# Altium schematic symbol library jlcpcb_2025_04_ferrites_extended_1206.schlib: 308 symbols (part 1 of 6)
Pins are listed as number, name and electrical type; pins without a type are passive.

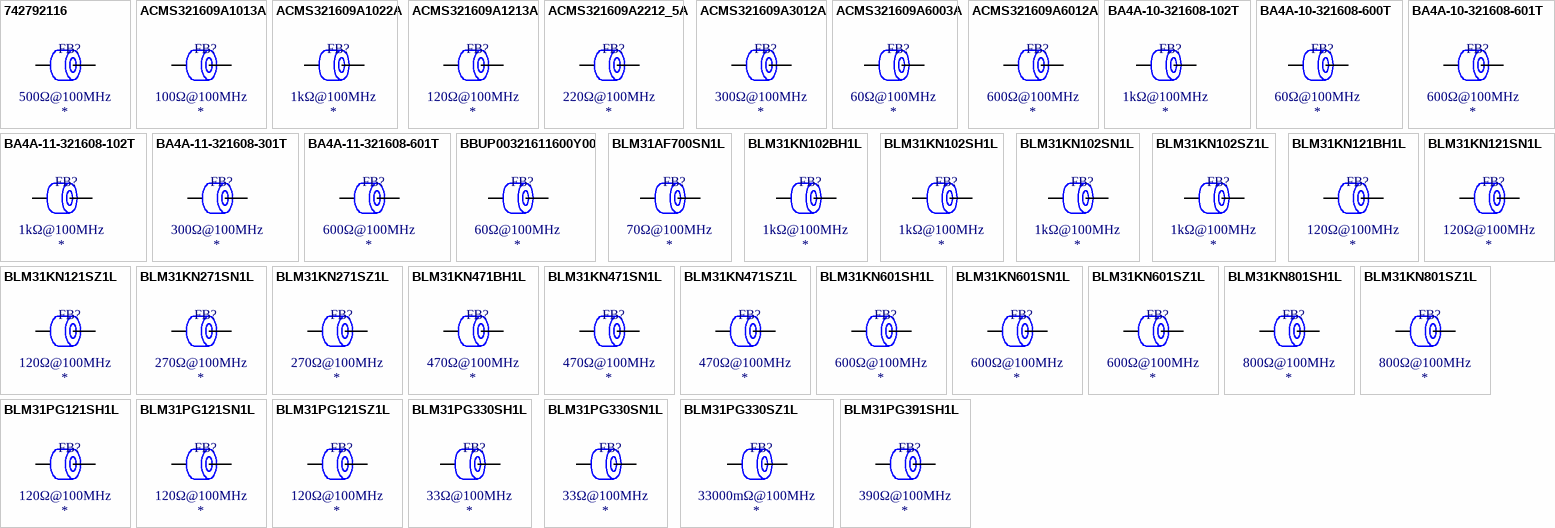
[diagram p0: symbols 742792116 to BLM31PG391SH1L]

## 742792116
designator FB?  Impedance @ Frequency: 500Ω@100MHz
Ferrite, 500Ω@100MHz, ±25%, 60mΩ, 2.5A, SMD 1206; Manufacturer: Wurth Elektronik; Manufacturer Part Number: 742792116; Package Size: 1206; JLCPCB Basic Part: No; JLCPCB Part Number: C2661413; Supplier 1: LCSC; Category: Ferrite Beads; Supplier Part Number 1: C2661413; Tolerance: ±25%; Rated Current: 2.5A; DC Resistance: 60mΩ; RoHS: Yes; ComponentLink1Description: Datasheet; ComponentLink1URL: https://wmsc.lcsc.com/wmsc/upload/file/pdf/v2/lcsc/2106080004_Wurth-Elektronik-742792116_C2661413.pdf; ComponentLink2Description: JLCPCB Part URL; ComponentLink2URL: https://jlcpcb.com/partdetail/C2661413; ComponentLink3Description: LCSC Part URL; ComponentLink3URL: https://lcsc.com/product-detail/Ferrite-Beads_Wurth-Elektronik-Wurth-Elektronik-742792116_C2661413.html
footprint FB-1206 (1206 (3216M) Ferrite)
pins: 1, 2

## ACMS321609A1013A
designator FB?  Impedance @ Frequency: 100Ω@100MHz
Ferrite, 100Ω@100MHz, ±25%, 70mΩ, 3A, SMD 1206; Manufacturer: HYHONGYEX; Manufacturer Part Number: ACMS321609A1013A; Package Size: 1206; JLCPCB Basic Part: No; JLCPCB Part Number: C963884; Supplier 1: LCSC; Category: Ferrite Beads; Supplier Part Number 1: C963884; Tolerance: ±25%; Rated Current: 3A; DC Resistance: 70mΩ; RoHS: Yes; ComponentLink1Description: Datasheet; ComponentLink1URL: https://wmsc.lcsc.com/wmsc/upload/file/pdf/v2/lcsc/2012171840_HYHONGYEX-ACMS321609A1013A_C963884.pdf; ComponentLink2Description: JLCPCB Part URL; ComponentLink2URL: https://jlcpcb.com/partdetail/C963884; ComponentLink3Description: LCSC Part URL; ComponentLink3URL: https://lcsc.com/product-detail/Ferrite-Beads_HYHONGYEX-HYHONGYEX-ACMS321609A1013A_C963884.html
footprint FB-1206 (1206 (3216M) Ferrite)
pins: 1, 2

## ACMS321609A1022A
designator FB?  Impedance @ Frequency: 1kΩ@100MHz
Ferrite, 1kΩ@100MHz, ±25%, 250mΩ, 2A, SMD 1206; Manufacturer: HYHONGYEX; Manufacturer Part Number: ACMS321609A1022A; Package Size: 1206; JLCPCB Basic Part: No; JLCPCB Part Number: C963889; Supplier 1: LCSC; Category: Ferrite Beads; Supplier Part Number 1: C963889; Tolerance: ±25%; Rated Current: 2A; DC Resistance: 250mΩ; RoHS: Yes; ComponentLink1Description: Datasheet; ComponentLink1URL: https://wmsc.lcsc.com/wmsc/upload/file/pdf/v2/lcsc/2201131330_HYHONGYEX-ACMS321609A1022A_C963889.pdf; ComponentLink2Description: JLCPCB Part URL; ComponentLink2URL: https://jlcpcb.com/partdetail/C963889; ComponentLink3Description: LCSC Part URL; ComponentLink3URL: https://lcsc.com/product-detail/Ferrite-Beads_HYHONGYEX-HYHONGYEX-ACMS321609A1022A_C963889.html
footprint FB-1206 (1206 (3216M) Ferrite)
pins: 1, 2

## ACMS321609A1213A
designator FB?  Impedance @ Frequency: 120Ω@100MHz
Ferrite, 120Ω@100MHz, ±25%, 70mΩ, 3A, SMD 1206; Manufacturer: HYHONGYEX; Manufacturer Part Number: ACMS321609A1213A; Package Size: 1206; JLCPCB Basic Part: No; JLCPCB Part Number: C963885; Supplier 1: LCSC; Category: Ferrite Beads; Supplier Part Number 1: C963885; Tolerance: ±25%; Rated Current: 3A; DC Resistance: 70mΩ; RoHS: Yes; ComponentLink1Description: Datasheet; ComponentLink1URL: https://wmsc.lcsc.com/wmsc/upload/file/pdf/v2/lcsc/2012171914_HYHONGYEX-ACMS321609A1213A_C963885.pdf; ComponentLink2Description: JLCPCB Part URL; ComponentLink2URL: https://jlcpcb.com/partdetail/C963885; ComponentLink3Description: LCSC Part URL; ComponentLink3URL: https://lcsc.com/product-detail/Ferrite-Beads_HYHONGYEX-HYHONGYEX-ACMS321609A1213A_C963885.html
footprint FB-1206 (1206 (3216M) Ferrite)
pins: 1, 2

## ACMS321609A2212_5A
designator FB?  Impedance @ Frequency: 220Ω@100MHz
Ferrite, 220Ω@100MHz, ±25%, 120mΩ, 2.5A, SMD 1206; Manufacturer: HYHONGYEX; Manufacturer Part Number: ACMS321609A2212.5A; Package Size: 1206; JLCPCB Basic Part: No; JLCPCB Part Number: C963886; Supplier 1: LCSC; Category: Ferrite Beads; Supplier Part Number 1: C963886; Tolerance: ±25%; Rated Current: 2.5A; DC Resistance: 120mΩ; RoHS: Yes; ComponentLink1Description: Datasheet; ComponentLink1URL: https://wmsc.lcsc.com/wmsc/upload/file/pdf/v2/lcsc/2012171914_HYHONGYEX-ACMS321609A2212-5A_C963886.pdf; ComponentLink2Description: JLCPCB Part URL; ComponentLink2URL: https://jlcpcb.com/partdetail/C963886; ComponentLink3Description: LCSC Part URL; ComponentLink3URL: https://lcsc.com/product-detail/Ferrite-Beads_HYHONGYEX-HYHONGYEX-ACMS321609A2212.5A_C963886.html
footprint FB-1206 (1206 (3216M) Ferrite)
pins: 1, 2

## ACMS321609A3012A
designator FB?  Impedance @ Frequency: 300Ω@100MHz
Ferrite, 300Ω@100MHz, ±25%, 150mΩ, 2A, SMD 1206; Manufacturer: HYHONGYEX; Manufacturer Part Number: ACMS321609A3012A; Package Size: 1206; JLCPCB Basic Part: No; JLCPCB Part Number: C963887; Supplier 1: LCSC; Category: Ferrite Beads; Supplier Part Number 1: C963887; Tolerance: ±25%; Rated Current: 2A; DC Resistance: 150mΩ; RoHS: Yes; ComponentLink1Description: Datasheet; ComponentLink1URL: https://wmsc.lcsc.com/wmsc/upload/file/pdf/v2/lcsc/2012171914_HYHONGYEX-ACMS321609A3012A_C963887.pdf; ComponentLink2Description: JLCPCB Part URL; ComponentLink2URL: https://jlcpcb.com/partdetail/C963887; ComponentLink3Description: LCSC Part URL; ComponentLink3URL: https://lcsc.com/product-detail/Ferrite-Beads_HYHONGYEX-HYHONGYEX-ACMS321609A3012A_C963887.html
footprint FB-1206 (1206 (3216M) Ferrite)
pins: 1, 2

## ACMS321609A6003A
designator FB?  Impedance @ Frequency: 60Ω@100MHz
Ferrite, 60Ω@100MHz, ±25%, 70mΩ, 3A, SMD 1206; Manufacturer: HYHONGYEX; Manufacturer Part Number: ACMS321609A6003A; Package Size: 1206; JLCPCB Basic Part: No; JLCPCB Part Number: C963881; Supplier 1: LCSC; Category: Ferrite Beads; Supplier Part Number 1: C963881; Tolerance: ±25%; Rated Current: 3A; DC Resistance: 70mΩ; RoHS: Yes; ComponentLink1Description: Datasheet; ComponentLink1URL: https://wmsc.lcsc.com/wmsc/upload/file/pdf/v2/lcsc/2201131330_HYHONGYEX-ACMS321609A6003A_C963881.pdf; ComponentLink2Description: JLCPCB Part URL; ComponentLink2URL: https://jlcpcb.com/partdetail/C963881; ComponentLink3Description: LCSC Part URL; ComponentLink3URL: https://lcsc.com/product-detail/Ferrite-Beads_HYHONGYEX-HYHONGYEX-ACMS321609A6003A_C963881.html
footprint FB-1206 (1206 (3216M) Ferrite)
pins: 1, 2

## ACMS321609A6012A
designator FB?  Impedance @ Frequency: 600Ω@100MHz
Ferrite, 600Ω@100MHz, ±25%, 200mΩ, 2A, SMD 1206; Manufacturer: HYHONGYEX; Manufacturer Part Number: ACMS321609A6012A; Package Size: 1206; JLCPCB Basic Part: No; JLCPCB Part Number: C963888; Supplier 1: LCSC; Category: Ferrite Beads; Supplier Part Number 1: C963888; Tolerance: ±25%; Rated Current: 2A; DC Resistance: 200mΩ; RoHS: Yes; ComponentLink1Description: Datasheet; ComponentLink1URL: https://wmsc.lcsc.com/wmsc/upload/file/pdf/v2/lcsc/2012171914_HYHONGYEX-ACMS321609A6012A_C963888.pdf; ComponentLink2Description: JLCPCB Part URL; ComponentLink2URL: https://jlcpcb.com/partdetail/C963888; ComponentLink3Description: LCSC Part URL; ComponentLink3URL: https://lcsc.com/product-detail/Ferrite-Beads_HYHONGYEX-HYHONGYEX-ACMS321609A6012A_C963888.html
footprint FB-1206 (1206 (3216M) Ferrite)
pins: 1, 2

## BA4A-10-321608-102T
designator FB?  Impedance @ Frequency: 1kΩ@100MHz
Ferrite, 1kΩ@100MHz, ±25%, 900mΩ, 100mA, SMD 1206; Manufacturer: Kingcore; Manufacturer Part Number: BA4A-10-321608-102T; Package Size: 1206; JLCPCB Basic Part: No; JLCPCB Part Number: C491465; Supplier 1: LCSC; Category: Ferrite Beads; Supplier Part Number 1: C491465; Tolerance: ±25%; Rated Current: 100mA; DC Resistance: 900mΩ; RoHS: Yes; ComponentLink1Description: Datasheet; ComponentLink1URL: https://datasheet.lcsc.com/lcsc/2003182011_Kingcore-BA4A-10-321608-102T_C491465.pdf; ComponentLink2Description: JLCPCB Part URL; ComponentLink2URL: https://jlcpcb.com/partdetail/C491465; ComponentLink3Description: LCSC Part URL; ComponentLink3URL: https://lcsc.com/product-detail/Ferrite-Beads_Kingcore-Kingcore-BA4A-10-321608-102T_C491465.html
footprint FB-1206 (1206 (3216M) Ferrite)
pins: 1, 2

## BA4A-10-321608-600T
designator FB?  Impedance @ Frequency: 60Ω@100MHz
Ferrite, 60Ω@100MHz, ±25%, 300mΩ, 300mA, SMD 1206; Manufacturer: Kingcore; Manufacturer Part Number: BA4A-10-321608-600T; Package Size: 1206; JLCPCB Basic Part: No; JLCPCB Part Number: C491456; Supplier 1: LCSC; Category: Ferrite Beads; Supplier Part Number 1: C491456; Tolerance: ±25%; Rated Current: 300mA; DC Resistance: 300mΩ; RoHS: Yes; ComponentLink1Description: Datasheet; ComponentLink1URL: https://datasheet.lcsc.com/lcsc/2003182011_Kingcore-BA4A-10-321608-600T_C491456.pdf; ComponentLink2Description: JLCPCB Part URL; ComponentLink2URL: https://jlcpcb.com/partdetail/C491456; ComponentLink3Description: LCSC Part URL; ComponentLink3URL: https://lcsc.com/product-detail/Ferrite-Beads_Kingcore-Kingcore-BA4A-10-321608-600T_C491456.html
footprint FB-1206 (1206 (3216M) Ferrite)
pins: 1, 2

## BA4A-10-321608-601T
designator FB?  Impedance @ Frequency: 600Ω@100MHz
Ferrite, 600Ω@100MHz, ±25%, 650mΩ, 200mA, SMD 1206; Manufacturer: Kingcore; Manufacturer Part Number: BA4A-10-321608-601T; Package Size: 1206; JLCPCB Basic Part: No; JLCPCB Part Number: C491464; Supplier 1: LCSC; Category: Ferrite Beads; Supplier Part Number 1: C491464; Tolerance: ±25%; Rated Current: 200mA; DC Resistance: 650mΩ; RoHS: Yes; ComponentLink1Description: Datasheet; ComponentLink1URL: https://datasheet.lcsc.com/lcsc/2003182011_Kingcore-BA4A-10-321608-601T_C491464.pdf; ComponentLink2Description: JLCPCB Part URL; ComponentLink2URL: https://jlcpcb.com/partdetail/C491464; ComponentLink3Description: LCSC Part URL; ComponentLink3URL: https://lcsc.com/product-detail/Ferrite-Beads_Kingcore-Kingcore-BA4A-10-321608-601T_C491464.html
footprint FB-1206 (1206 (3216M) Ferrite)
pins: 1, 2

## BA4A-11-321608-102T
designator FB?  Impedance @ Frequency: 1kΩ@100MHz
Ferrite, 1kΩ@100MHz, ±25%, 900mΩ, 100mA, SMD 1206; Manufacturer: Kingcore; Manufacturer Part Number: BA4A-11-321608-102T; Package Size: 1206; JLCPCB Basic Part: No; JLCPCB Part Number: C491478; Supplier 1: LCSC; Category: Ferrite Beads; Supplier Part Number 1: C491478; Tolerance: ±25%; Rated Current: 100mA; DC Resistance: 900mΩ; RoHS: Yes; ComponentLink1Description: Datasheet; ComponentLink1URL: https://datasheet.lcsc.com/lcsc/2003182011_Kingcore-BA4A-11-321608-102T_C491478.pdf; ComponentLink2Description: JLCPCB Part URL; ComponentLink2URL: https://jlcpcb.com/partdetail/C491478; ComponentLink3Description: LCSC Part URL; ComponentLink3URL: https://lcsc.com/product-detail/Ferrite-Beads_Kingcore-Kingcore-BA4A-11-321608-102T_C491478.html
footprint FB-1206 (1206 (3216M) Ferrite)
pins: 1, 2

## BA4A-11-321608-301T
designator FB?  Impedance @ Frequency: 300Ω@100MHz
Ferrite, 300Ω@100MHz, ±25%, 500mΩ, 200mA, SMD 1206; Manufacturer: Kingcore; Manufacturer Part Number: BA4A-11-321608-301T; Package Size: 1206; JLCPCB Basic Part: No; JLCPCB Part Number: C491475; Supplier 1: LCSC; Category: Ferrite Beads; Supplier Part Number 1: C491475; Tolerance: ±25%; Rated Current: 200mA; DC Resistance: 500mΩ; RoHS: Yes; ComponentLink1Description: Datasheet; ComponentLink1URL: https://datasheet.lcsc.com/lcsc/2003182011_Kingcore-BA4A-11-321608-301T_C491475.pdf; ComponentLink2Description: JLCPCB Part URL; ComponentLink2URL: https://jlcpcb.com/partdetail/C491475; ComponentLink3Description: LCSC Part URL; ComponentLink3URL: https://lcsc.com/product-detail/Ferrite-Beads_Kingcore-Kingcore-BA4A-11-321608-301T_C491475.html
footprint FB-1206 (1206 (3216M) Ferrite)
pins: 1, 2

## BA4A-11-321608-601T
designator FB?  Impedance @ Frequency: 600Ω@100MHz
Ferrite, 600Ω@100MHz, ±25%, 600mΩ, 200mA, SMD 1206; Manufacturer: Kingcore; Manufacturer Part Number: BA4A-11-321608-601T; Package Size: 1206; JLCPCB Basic Part: No; JLCPCB Part Number: C491477; Supplier 1: LCSC; Category: Ferrite Beads; Supplier Part Number 1: C491477; Tolerance: ±25%; Rated Current: 200mA; DC Resistance: 600mΩ; RoHS: Yes; ComponentLink1Description: Datasheet; ComponentLink1URL: https://datasheet.lcsc.com/lcsc/2003182011_Kingcore-BA4A-11-321608-601T_C491477.pdf; ComponentLink2Description: JLCPCB Part URL; ComponentLink2URL: https://jlcpcb.com/partdetail/C491477; ComponentLink3Description: LCSC Part URL; ComponentLink3URL: https://lcsc.com/product-detail/Ferrite-Beads_Kingcore-Kingcore-BA4A-11-321608-601T_C491477.html
footprint FB-1206 (1206 (3216M) Ferrite)
pins: 1, 2

## BBUP00321611600Y00
designator FB?  Impedance @ Frequency: 60Ω@100MHz
Ferrite, 60Ω@100MHz, ±25%, 0.012Ω, 6A, SMD 1206; Manufacturer: Chilisin Elec; Manufacturer Part Number: BBUP00321611600Y00; Package Size: 1206; JLCPCB Basic Part: No; JLCPCB Part Number: C2981200; Supplier 1: LCSC; Category: Ferrite Beads; Supplier Part Number 1: C2981200; Tolerance: ±25%; Rated Current: 6A; DC Resistance: 0.012Ω; RoHS: Yes; ComponentLink1Description: Datasheet; ComponentLink1URL: https://wmsc.lcsc.com/wmsc/upload/file/pdf/v2/lcsc/2203101903_Chilisin-Elec-BBUP00321611600Y00_C2981200.pdf; ComponentLink2Description: JLCPCB Part URL; ComponentLink2URL: https://jlcpcb.com/partdetail/C2981200; ComponentLink3Description: LCSC Part URL; ComponentLink3URL: https://lcsc.com/product-detail/Ferrite-Beads_Chilisin-Elec-Chilisin-Elec-BBUP00321611600Y00_C2981200.html
footprint FB-1206 (1206 (3216M) Ferrite)
pins: 1, 2

## BLM31AF700SN1L
designator FB?  Impedance @ Frequency: 70Ω@100MHz
Ferrite, 70Ω@100MHz, ±25%, 70mΩ, 200mA, SMD 1206; Manufacturer: Murata Electronics; Manufacturer Part Number: BLM31AF700SN1L; Package Size: 1206; JLCPCB Basic Part: No; JLCPCB Part Number: C113036; Supplier 1: LCSC; Category: Ferrite Beads; Supplier Part Number 1: C113036; Tolerance: ±25%; Rated Current: 200mA; DC Resistance: 70mΩ; RoHS: Yes; ComponentLink1Description: Datasheet; ComponentLink1URL: https://wmsc.lcsc.com/wmsc/upload/file/pdf/v2/lcsc/2001061832_Murata-Electronics-BLM31AF700SN1L_C113036.pdf; ComponentLink2Description: JLCPCB Part URL; ComponentLink2URL: https://jlcpcb.com/partdetail/C113036; ComponentLink3Description: LCSC Part URL; ComponentLink3URL: https://lcsc.com/product-detail/Ferrite-Beads_Murata-Electronics-Murata-Electronics-BLM31AF700SN1L_C113036.html
footprint FB-1206 (1206 (3216M) Ferrite)
pins: 1, 2

## BLM31KN102BH1L
designator FB?  Impedance @ Frequency: 1kΩ@100MHz
Ferrite, 1kΩ@100MHz, ±25%, 75mΩ, 1.4A, SMD 1206; Manufacturer: Murata Electronics; Manufacturer Part Number: BLM31KN102BH1L; Package Size: 1206; JLCPCB Basic Part: No; JLCPCB Part Number: C2661851; Supplier 1: LCSC; Category: Ferrite Beads; Supplier Part Number 1: C2661851; Tolerance: ±25%; Rated Current: 1.4A; DC Resistance: 75mΩ; RoHS: Yes; ComponentLink1Description: Datasheet; ComponentLink1URL: https://wmsc.lcsc.com/wmsc/upload/file/pdf/v2/lcsc/2202131730_Murata-Electronics-BLM31KN102BH1L_C2661851.pdf; ComponentLink2Description: JLCPCB Part URL; ComponentLink2URL: https://jlcpcb.com/partdetail/C2661851; ComponentLink3Description: LCSC Part URL; ComponentLink3URL: https://lcsc.com/product-detail/Ferrite-Beads_Murata-Electronics-Murata-Electronics-BLM31KN102BH1L_C2661851.html
footprint FB-1206 (1206 (3216M) Ferrite)
pins: 1, 2

## BLM31KN102SH1L
designator FB?  Impedance @ Frequency: 1kΩ@100MHz
Ferrite, 1kΩ@100MHz, 75mΩ, SMD 1206; Manufacturer: Murata Electronics; Manufacturer Part Number: BLM31KN102SH1L; Package Size: 1206; JLCPCB Basic Part: No; JLCPCB Part Number: C723325; Supplier 1: LCSC; Category: Ferrite Beads; Supplier Part Number 1: C723325; DC Resistance: 75mΩ; RoHS: Yes; ComponentLink1Description: Datasheet; ComponentLink1URL: https://wmsc.lcsc.com/wmsc/upload/file/pdf/v2/lcsc/2008241234_Murata-Electronics-BLM31KN102SH1L_C723325.pdf; ComponentLink2Description: JLCPCB Part URL; ComponentLink2URL: https://jlcpcb.com/partdetail/C723325; ComponentLink3Description: LCSC Part URL; ComponentLink3URL: https://lcsc.com/product-detail/Ferrite-Beads_Murata-Electronics-Murata-Electronics-BLM31KN102SH1L_C723325.html
pins: 1, 2

## BLM31KN102SN1L
designator FB?  Impedance @ Frequency: 1kΩ@100MHz
Ferrite, 1kΩ@100MHz, 75mΩ, 2A, SMD 1206; Manufacturer: Murata Electronics; Manufacturer Part Number: BLM31KN102SN1L; Package Size: 1206; JLCPCB Basic Part: No; JLCPCB Part Number: C560056; Supplier 1: LCSC; Category: Ferrite Beads; Supplier Part Number 1: C560056; Rated Current: 2A; DC Resistance: 75mΩ; RoHS: Yes; ComponentLink1Description: Datasheet; ComponentLink1URL: https://wmsc.lcsc.com/wmsc/upload/file/pdf/v2/lcsc/2112221030_Murata-Electronics-BLM31KN102SN1L_C560056.pdf; ComponentLink2Description: JLCPCB Part URL; ComponentLink2URL: https://jlcpcb.com/partdetail/C560056; ComponentLink3Description: LCSC Part URL; ComponentLink3URL: https://lcsc.com/product-detail/Ferrite-Beads_Murata-Electronics-Murata-Electronics-BLM31KN102SN1L_C560056.html
pins: 1, 2

## BLM31KN102SZ1L
designator FB?  Impedance @ Frequency: 1kΩ@100MHz
Ferrite, 1kΩ@100MHz, ±25%, 75mΩ, 2A, SMD 1206; Manufacturer: Murata Electronics; Manufacturer Part Number: BLM31KN102SZ1L; Package Size: 1206; JLCPCB Basic Part: No; JLCPCB Part Number: C710514; Supplier 1: LCSC; Category: Ferrite Beads; Supplier Part Number 1: C710514; Tolerance: ±25%; Rated Current: 2A; DC Resistance: 75mΩ; RoHS: Yes; ComponentLink1Description: Datasheet; ComponentLink1URL: https://wmsc.lcsc.com/wmsc/upload/file/pdf/v2/lcsc/2304140030_Murata-Electronics-BLM31KN102SZ1L_C710514.pdf; ComponentLink2Description: JLCPCB Part URL; ComponentLink2URL: https://jlcpcb.com/partdetail/C710514; ComponentLink3Description: LCSC Part URL; ComponentLink3URL: https://lcsc.com/product-detail/Ferrite-Beads_Murata-Electronics-Murata-Electronics-BLM31KN102SZ1L_C710514.html
footprint FB-1206 (1206 (3216M) Ferrite)
pins: 1, 2

## BLM31KN121BH1L
designator FB?  Impedance @ Frequency: 120Ω@100MHz
Ferrite, 120Ω@100MHz, ±25%, 9mΩ, 4A, SMD 1206; Manufacturer: Murata Electronics; Manufacturer Part Number: BLM31KN121BH1L; Package Size: 1206; JLCPCB Basic Part: No; JLCPCB Part Number: C393165; Supplier 1: LCSC; Category: Ferrite Beads; Supplier Part Number 1: C393165; Tolerance: ±25%; Rated Current: 4A; DC Resistance: 9mΩ; RoHS: Yes; ComponentLink1Description: Datasheet; ComponentLink1URL: https://wmsc.lcsc.com/wmsc/upload/file/pdf/v2/lcsc/2304140030_Murata-Electronics-BLM31KN121BH1L_C393165.pdf; ComponentLink2Description: JLCPCB Part URL; ComponentLink2URL: https://jlcpcb.com/partdetail/C393165; ComponentLink3Description: LCSC Part URL; ComponentLink3URL: https://lcsc.com/product-detail/Ferrite-Beads_Murata-Electronics-Murata-Electronics-BLM31KN121BH1L_C393165.html
footprint FB-1206 (1206 (3216M) Ferrite)
pins: 1, 2

## BLM31KN121SN1L
designator FB?  Impedance @ Frequency: 120Ω@100MHz
Ferrite, 120Ω@100MHz, ±25%, 9mΩ, 6A, SMD 1206; Manufacturer: Murata Electronics; Manufacturer Part Number: BLM31KN121SN1L; Package Size: 1206; JLCPCB Basic Part: No; JLCPCB Part Number: C337884; Supplier 1: LCSC; Category: Ferrite Beads; Supplier Part Number 1: C337884; Tolerance: ±25%; Rated Current: 6A; DC Resistance: 9mΩ; RoHS: Yes; ComponentLink1Description: Datasheet; ComponentLink1URL: https://wmsc.lcsc.com/wmsc/upload/file/pdf/v2/lcsc/2401191156_Murata-Electronics-BLM31KN121SN1L_C337884.pdf; ComponentLink2Description: JLCPCB Part URL; ComponentLink2URL: https://jlcpcb.com/partdetail/C337884; ComponentLink3Description: LCSC Part URL; ComponentLink3URL: https://lcsc.com/product-detail/Ferrite-Beads_Murata-Electronics-Murata-Electronics-BLM31KN121SN1L_C337884.html
footprint FB-1206 (1206 (3216M) Ferrite)
pins: 1, 2

## BLM31KN121SZ1L
designator FB?  Impedance @ Frequency: 120Ω@100MHz
Ferrite, 120Ω@100MHz, ±25%, 9mΩ, 6A, SMD 1206; Manufacturer: Murata Electronics; Manufacturer Part Number: BLM31KN121SZ1L; Package Size: 1206; JLCPCB Basic Part: No; JLCPCB Part Number: C710516; Supplier 1: LCSC; Category: Ferrite Beads; Supplier Part Number 1: C710516; Tolerance: ±25%; Rated Current: 6A; DC Resistance: 9mΩ; RoHS: Yes; ComponentLink1Description: Datasheet; ComponentLink1URL: https://wmsc.lcsc.com/wmsc/upload/file/pdf/v2/lcsc/2304140030_Murata-Electronics-BLM31KN121SZ1L_C710516.pdf; ComponentLink2Description: JLCPCB Part URL; ComponentLink2URL: https://jlcpcb.com/partdetail/C710516; ComponentLink3Description: LCSC Part URL; ComponentLink3URL: https://lcsc.com/product-detail/Ferrite-Beads_Murata-Electronics-Murata-Electronics-BLM31KN121SZ1L_C710516.html
footprint FB-1206 (1206 (3216M) Ferrite)
pins: 1, 2

## BLM31KN271SN1L
designator FB?  Impedance @ Frequency: 270Ω@100MHz
Ferrite, 270Ω@100MHz, 16mΩ, SMD 1206; Manufacturer: Murata Electronics; Manufacturer Part Number: BLM31KN271SN1L; Package Size: 1206; JLCPCB Basic Part: No; JLCPCB Part Number: C703115; Supplier 1: LCSC; Category: Ferrite Beads; Supplier Part Number 1: C703115; DC Resistance: 16mΩ; RoHS: Yes; ComponentLink1Description: Datasheet; ComponentLink1URL: https://wmsc.lcsc.com/wmsc/upload/file/pdf/v2/lcsc/2308111548_Murata-Electronics-BLM31KN271SN1L_C703115.pdf; ComponentLink2Description: JLCPCB Part URL; ComponentLink2URL: https://jlcpcb.com/partdetail/C703115; ComponentLink3Description: LCSC Part URL; ComponentLink3URL: https://lcsc.com/product-detail/Ferrite-Beads_Murata-Electronics-Murata-Electronics-BLM31KN271SN1L_C703115.html
pins: 1, 2

## BLM31KN271SZ1L
designator FB?  Impedance @ Frequency: 270Ω@100MHz
Ferrite, 270Ω@100MHz, ±25%, 16mΩ, 6A, SMD 1206; Manufacturer: Murata Electronics; Manufacturer Part Number: BLM31KN271SZ1L; Package Size: 1206; JLCPCB Basic Part: No; JLCPCB Part Number: C668305; Supplier 1: LCSC; Category: Ferrite Beads; Supplier Part Number 1: C668305; Tolerance: ±25%; Rated Current: 6A; DC Resistance: 16mΩ; RoHS: Yes; ComponentLink1Description: Datasheet; ComponentLink1URL: https://wmsc.lcsc.com/wmsc/upload/file/pdf/v2/lcsc/2204121015_Murata-Electronics-BLM31KN271SZ1L_C668305.pdf; ComponentLink2Description: JLCPCB Part URL; ComponentLink2URL: https://jlcpcb.com/partdetail/C668305; ComponentLink3Description: LCSC Part URL; ComponentLink3URL: https://lcsc.com/product-detail/Ferrite-Beads_Murata-Electronics-Murata-Electronics-BLM31KN271SZ1L_C668305.html
footprint FB-1206 (1206 (3216M) Ferrite)
pins: 1, 2

## BLM31KN471BH1L
designator FB?  Impedance @ Frequency: 470Ω@100MHz
Ferrite, 470Ω@100MHz, ±25%, 20mΩ, 2.7A, SMD 1206; Manufacturer: Murata Electronics; Manufacturer Part Number: BLM31KN471BH1L; Package Size: 1206; JLCPCB Basic Part: No; JLCPCB Part Number: C2992332; Supplier 1: LCSC; Category: Ferrite Beads; Supplier Part Number 1: C2992332; Tolerance: ±25%; Rated Current: 2.7A; DC Resistance: 20mΩ; RoHS: Yes; ComponentLink1Description: Datasheet; ComponentLink1URL: https://wmsc.lcsc.com/wmsc/upload/file/pdf/v2/lcsc/2204191745_Murata-Electronics-BLM31KN471BH1L_C2992332.pdf; ComponentLink2Description: JLCPCB Part URL; ComponentLink2URL: https://jlcpcb.com/partdetail/C2992332; ComponentLink3Description: LCSC Part URL; ComponentLink3URL: https://lcsc.com/product-detail/Ferrite-Beads_Murata-Electronics-Murata-Electronics-BLM31KN471BH1L_C2992332.html
footprint FB-1206 (1206 (3216M) Ferrite)
pins: 1, 2

## BLM31KN471SN1L
designator FB?  Impedance @ Frequency: 470Ω@100MHz
Ferrite, 470Ω@100MHz, 20mΩ, SMD 1206; Manufacturer: Murata Electronics; Manufacturer Part Number: BLM31KN471SN1L; Package Size: 1206; JLCPCB Basic Part: No; JLCPCB Part Number: C703117; Supplier 1: LCSC; Category: Ferrite Beads; Supplier Part Number 1: C703117; DC Resistance: 20mΩ; RoHS: Yes; ComponentLink1Description: Datasheet; ComponentLink1URL: https://wmsc.lcsc.com/wmsc/upload/file/pdf/v2/lcsc/2401241855_Murata-Electronics-BLM31KN471SN1L_C703117.pdf; ComponentLink2Description: JLCPCB Part URL; ComponentLink2URL: https://jlcpcb.com/partdetail/C703117; ComponentLink3Description: LCSC Part URL; ComponentLink3URL: https://lcsc.com/product-detail/Ferrite-Beads_Murata-Electronics-Murata-Electronics-BLM31KN471SN1L_C703117.html
pins: 1, 2

## BLM31KN471SZ1L
designator FB?  Impedance @ Frequency: 470Ω@100MHz
Ferrite, 470Ω@100MHz, ±25%, 20mΩ, 4A, SMD 1206; Manufacturer: Murata Electronics; Manufacturer Part Number: BLM31KN471SZ1L; Package Size: 1206; JLCPCB Basic Part: No; JLCPCB Part Number: C710518; Supplier 1: LCSC; Category: Ferrite Beads; Supplier Part Number 1: C710518; Tolerance: ±25%; Rated Current: 4A; DC Resistance: 20mΩ; RoHS: Yes; ComponentLink1Description: Datasheet; ComponentLink1URL: https://wmsc.lcsc.com/wmsc/upload/file/pdf/v2/lcsc/2304140030_Murata-Electronics-BLM31KN471SZ1L_C710518.pdf; ComponentLink2Description: JLCPCB Part URL; ComponentLink2URL: https://jlcpcb.com/partdetail/C710518; ComponentLink3Description: LCSC Part URL; ComponentLink3URL: https://lcsc.com/product-detail/Ferrite-Beads_Murata-Electronics-Murata-Electronics-BLM31KN471SZ1L_C710518.html
footprint FB-1206 (1206 (3216M) Ferrite)
pins: 1, 2

## BLM31KN601SH1L
designator FB?  Impedance @ Frequency: 600Ω@100MHz
Ferrite, 600Ω@100MHz, 38mΩ, 2.9A, SMD 1206; Manufacturer: Murata Electronics; Manufacturer Part Number: BLM31KN601SH1L; Package Size: 1206; JLCPCB Basic Part: No; JLCPCB Part Number: C237603; Supplier 1: LCSC; Category: Ferrite Beads; Supplier Part Number 1: C237603; Rated Current: 2.9A; DC Resistance: 38mΩ; RoHS: Yes; ComponentLink1Description: Datasheet; ComponentLink1URL: https://wmsc.lcsc.com/wmsc/upload/file/pdf/v2/lcsc/2308111548_Murata-Electronics-BLM31KN601SH1L_C237603.pdf; ComponentLink2Description: JLCPCB Part URL; ComponentLink2URL: https://jlcpcb.com/partdetail/C237603; ComponentLink3Description: LCSC Part URL; ComponentLink3URL: https://lcsc.com/product-detail/Ferrite-Beads_Murata-Electronics-Murata-Electronics-BLM31KN601SH1L_C237603.html
pins: 1, 2

## BLM31KN601SN1L
designator FB?  Impedance @ Frequency: 600Ω@100MHz
Ferrite, 600Ω@100MHz, 38mΩ, SMD 1206; Manufacturer: Murata Electronics; Manufacturer Part Number: BLM31KN601SN1L; Package Size: 1206; JLCPCB Basic Part: No; JLCPCB Part Number: C668306; Supplier 1: LCSC; Category: Ferrite Beads; Supplier Part Number 1: C668306; DC Resistance: 38mΩ; RoHS: Yes; ComponentLink1Description: Datasheet; ComponentLink1URL: https://wmsc.lcsc.com/wmsc/upload/file/pdf/v2/lcsc/2209271730_Murata-Electronics-BLM31KN601SN1L_C668306.pdf; ComponentLink2Description: JLCPCB Part URL; ComponentLink2URL: https://jlcpcb.com/partdetail/C668306; ComponentLink3Description: LCSC Part URL; ComponentLink3URL: https://lcsc.com/product-detail/Ferrite-Beads_Murata-Electronics-Murata-Electronics-BLM31KN601SN1L_C668306.html
pins: 1, 2

## BLM31KN601SZ1L
designator FB?  Impedance @ Frequency: 600Ω@100MHz
Ferrite, 600Ω@100MHz, ±25%, 38mΩ, 2.9A, SMD 1206; Manufacturer: Murata Electronics; Manufacturer Part Number: BLM31KN601SZ1L; Package Size: 1206; JLCPCB Basic Part: No; JLCPCB Part Number: C710519; Supplier 1: LCSC; Category: Ferrite Beads; Supplier Part Number 1: C710519; Tolerance: ±25%; Rated Current: 2.9A; DC Resistance: 38mΩ; RoHS: Yes; ComponentLink1Description: Datasheet; ComponentLink1URL: https://wmsc.lcsc.com/wmsc/upload/file/pdf/v2/lcsc/2201131100_Murata-Electronics-BLM31KN601SZ1L_C710519.pdf; ComponentLink2Description: JLCPCB Part URL; ComponentLink2URL: https://jlcpcb.com/partdetail/C710519; ComponentLink3Description: LCSC Part URL; ComponentLink3URL: https://lcsc.com/product-detail/Ferrite-Beads_Murata-Electronics-Murata-Electronics-BLM31KN601SZ1L_C710519.html
footprint FB-1206 (1206 (3216M) Ferrite)
pins: 1, 2

## BLM31KN801SH1L
designator FB?  Impedance @ Frequency: 800Ω@100MHz
Ferrite, 800Ω@100MHz, ±25%, 50mΩ, 2.5A, SMD 1206; Manufacturer: Murata Electronics; Manufacturer Part Number: BLM31KN801SH1L; Package Size: 1206; JLCPCB Basic Part: No; JLCPCB Part Number: C524533; Supplier 1: LCSC; Category: Ferrite Beads; Supplier Part Number 1: C524533; Tolerance: ±25%; Rated Current: 2.5A; DC Resistance: 50mΩ; RoHS: Yes; ComponentLink1Description: Datasheet; ComponentLink1URL: https://wmsc.lcsc.com/wmsc/upload/file/pdf/v2/lcsc/2304140030_Murata-Electronics-BLM31KN801SH1L_C524533.pdf; ComponentLink2Description: JLCPCB Part URL; ComponentLink2URL: https://jlcpcb.com/partdetail/C524533; ComponentLink3Description: LCSC Part URL; ComponentLink3URL: https://lcsc.com/product-detail/Ferrite-Beads_Murata-Electronics-Murata-Electronics-BLM31KN801SH1L_C524533.html
footprint FB-1206 (1206 (3216M) Ferrite)
pins: 1, 2

## BLM31KN801SZ1L
designator FB?  Impedance @ Frequency: 800Ω@100MHz
Ferrite, 800Ω@100MHz, ±25%, 50mΩ, 2.5A, SMD 1206; Manufacturer: Murata Electronics; Manufacturer Part Number: BLM31KN801SZ1L; Package Size: 1206; JLCPCB Basic Part: No; JLCPCB Part Number: C1533907; Supplier 1: LCSC; Category: Ferrite Beads; Supplier Part Number 1: C1533907; Tolerance: ±25%; Rated Current: 2.5A; DC Resistance: 50mΩ; RoHS: Yes; ComponentLink1Description: Datasheet; ComponentLink1URL: https://wmsc.lcsc.com/wmsc/upload/file/pdf/v2/lcsc/2201180930_Murata-Electronics-BLM31KN801SZ1L_C1533907.pdf; ComponentLink2Description: JLCPCB Part URL; ComponentLink2URL: https://jlcpcb.com/partdetail/C1533907; ComponentLink3Description: LCSC Part URL; ComponentLink3URL: https://lcsc.com/product-detail/Ferrite-Beads_Murata-Electronics-Murata-Electronics-BLM31KN801SZ1L_C1533907.html
footprint FB-1206 (1206 (3216M) Ferrite)
pins: 1, 2

## BLM31PG121SH1L
designator FB?  Impedance @ Frequency: 120Ω@100MHz
Ferrite, 120Ω@100MHz, ±25%, 20mΩ, 3.5A, SMD 1206; Manufacturer: Murata Electronics; Manufacturer Part Number: BLM31PG121SH1L; Package Size: 1206; JLCPCB Basic Part: No; JLCPCB Part Number: C307593; Supplier 1: LCSC; Category: Ferrite Beads; Supplier Part Number 1: C307593; Tolerance: ±25%; Rated Current: 3.5A; DC Resistance: 20mΩ; RoHS: Yes; ComponentLink1Description: Datasheet; ComponentLink1URL: https://wmsc.lcsc.com/wmsc/upload/file/pdf/v2/lcsc/1912111437_Murata-Electronics-BLM31PG121SH1L_C307593.pdf; ComponentLink2Description: JLCPCB Part URL; ComponentLink2URL: https://jlcpcb.com/partdetail/C307593; ComponentLink3Description: LCSC Part URL; ComponentLink3URL: https://lcsc.com/product-detail/Ferrite-Beads_Murata-Electronics-Murata-Electronics-BLM31PG121SH1L_C307593.html
footprint FB-1206 (1206 (3216M) Ferrite)
pins: 1, 2

## BLM31PG121SN1L
designator FB?  Impedance @ Frequency: 120Ω@100MHz
Ferrite, 120Ω@100MHz, ±25%, 20mΩ, 3.5A, SMD 1206; Manufacturer: Murata Electronics; Manufacturer Part Number: BLM31PG121SN1L; Package Size: 1206; JLCPCB Basic Part: No; JLCPCB Part Number: C85841; Supplier 1: LCSC; Category: Ferrite Beads; Supplier Part Number 1: C85841; Tolerance: ±25%; Rated Current: 3.5A; DC Resistance: 20mΩ; RoHS: Yes; ComponentLink1Description: Datasheet; ComponentLink1URL: https://wmsc.lcsc.com/wmsc/upload/file/pdf/v2/lcsc/2304140030_Murata-Electronics-BLM31PG121SN1L_C85841.pdf; ComponentLink2Description: JLCPCB Part URL; ComponentLink2URL: https://jlcpcb.com/partdetail/C85841; ComponentLink3Description: LCSC Part URL; ComponentLink3URL: https://lcsc.com/product-detail/Ferrite-Beads_Murata-Electronics-Murata-Electronics-BLM31PG121SN1L_C85841.html
footprint FB-1206 (1206 (3216M) Ferrite)
pins: 1, 2

## BLM31PG121SZ1L
designator FB?  Impedance @ Frequency: 120Ω@100MHz
Ferrite, 120Ω@100MHz, ±25%, 20mΩ, 3.5A, SMD 1206; Manufacturer: Murata Electronics; Manufacturer Part Number: BLM31PG121SZ1L; Package Size: 1206; JLCPCB Basic Part: No; JLCPCB Part Number: C435390; Supplier 1: LCSC; Category: Ferrite Beads; Supplier Part Number 1: C435390; Tolerance: ±25%; Rated Current: 3.5A; DC Resistance: 20mΩ; RoHS: Yes; ComponentLink1Description: Datasheet; ComponentLink1URL: https://wmsc.lcsc.com/wmsc/upload/file/pdf/v2/lcsc/1912111437_Murata-Electronics-BLM31PG121SZ1L_C435390.pdf; ComponentLink2Description: JLCPCB Part URL; ComponentLink2URL: https://jlcpcb.com/partdetail/C435390; ComponentLink3Description: LCSC Part URL; ComponentLink3URL: https://lcsc.com/product-detail/Ferrite-Beads_Murata-Electronics-Murata-Electronics-BLM31PG121SZ1L_C435390.html
footprint FB-1206 (1206 (3216M) Ferrite)
pins: 1, 2

## BLM31PG330SH1L
designator FB?  Impedance @ Frequency: 33Ω@100MHz
Ferrite, 33Ω@100MHz, ±25%, 9mΩ, 6A, SMD 1206; Manufacturer: Murata Electronics; Manufacturer Part Number: BLM31PG330SH1L; Package Size: 1206; JLCPCB Basic Part: No; JLCPCB Part Number: C167449; Supplier 1: LCSC; Category: Ferrite Beads; Supplier Part Number 1: C167449; Tolerance: ±25%; Rated Current: 6A; DC Resistance: 9mΩ; RoHS: Yes; ComponentLink1Description: Datasheet; ComponentLink1URL: https://wmsc.lcsc.com/wmsc/upload/file/pdf/v2/lcsc/2304140030_Murata-Electronics-BLM31PG330SH1L_C167449.pdf; ComponentLink2Description: JLCPCB Part URL; ComponentLink2URL: https://jlcpcb.com/partdetail/C167449; ComponentLink3Description: LCSC Part URL; ComponentLink3URL: https://lcsc.com/product-detail/Ferrite-Beads_Murata-Electronics-Murata-Electronics-BLM31PG330SH1L_C167449.html
footprint FB-1206 (1206 (3216M) Ferrite)
pins: 1, 2

## BLM31PG330SN1L
designator FB?  Impedance @ Frequency: 33Ω@100MHz
Ferrite, 33Ω@100MHz, ±25%, 9mΩ, 6A, SMD 1206; Manufacturer: Murata Electronics; Manufacturer Part Number: BLM31PG330SN1L; Package Size: 1206; JLCPCB Basic Part: No; JLCPCB Part Number: C74090; Supplier 1: LCSC; Category: Ferrite Beads; Supplier Part Number 1: C74090; Tolerance: ±25%; Rated Current: 6A; DC Resistance: 9mΩ; RoHS: Yes; ComponentLink1Description: Datasheet; ComponentLink1URL: https://wmsc.lcsc.com/wmsc/upload/file/pdf/v2/lcsc/2304140030_Murata-Electronics-BLM31PG330SN1L_C74090.pdf; ComponentLink2Description: JLCPCB Part URL; ComponentLink2URL: https://jlcpcb.com/partdetail/C74090; ComponentLink3Description: LCSC Part URL; ComponentLink3URL: https://lcsc.com/product-detail/Ferrite-Beads_Murata-Electronics-Murata-Electronics-BLM31PG330SN1L_C74090.html
footprint FB-1206 (1206 (3216M) Ferrite)
pins: 1, 2

## BLM31PG330SZ1L
designator FB?  Impedance @ Frequency: 33000mΩ@100MHz
Ferrite, 33000mΩ@100MHz, ±25%, 9mΩ, 6A, SMD 1206; Manufacturer: Murata Electronics; Manufacturer Part Number: BLM31PG330SZ1L; Package Size: 1206; JLCPCB Basic Part: No; JLCPCB Part Number: C710521; Supplier 1: LCSC; Category: Ferrite Beads; Supplier Part Number 1: C710521; Tolerance: ±25%; Rated Current: 6A; DC Resistance: 9mΩ; RoHS: Yes; ComponentLink1Description: Datasheet; ComponentLink1URL: https://wmsc.lcsc.com/wmsc/upload/file/pdf/v2/lcsc/2304140030_Murata-Electronics-BLM31PG330SZ1L_C710521.pdf; ComponentLink2Description: JLCPCB Part URL; ComponentLink2URL: https://jlcpcb.com/partdetail/C710521; ComponentLink3Description: LCSC Part URL; ComponentLink3URL: https://lcsc.com/product-detail/Ferrite-Beads_Murata-Electronics-Murata-Electronics-BLM31PG330SZ1L_C710521.html
footprint FB-1206 (1206 (3216M) Ferrite)
pins: 1, 2

## BLM31PG391SH1L
designator FB?  Impedance @ Frequency: 390Ω@100MHz
Ferrite, 390Ω@100MHz, ±25%, 50mΩ, 2A, SMD 1206; Manufacturer: Murata Electronics; Manufacturer Part Number: BLM31PG391SH1L; Package Size: 1206; JLCPCB Basic Part: No; JLCPCB Part Number: C397308; Supplier 1: LCSC; Category: Ferrite Beads; Supplier Part Number 1: C397308; Tolerance: ±25%; Rated Current: 2A; DC Resistance: 50mΩ; RoHS: Yes; ComponentLink1Description: Datasheet; ComponentLink1URL: https://wmsc.lcsc.com/wmsc/upload/file/pdf/v2/lcsc/2304140030_Murata-Electronics-BLM31PG391SH1L_C397308.pdf; ComponentLink2Description: JLCPCB Part URL; ComponentLink2URL: https://jlcpcb.com/partdetail/C397308; ComponentLink3Description: LCSC Part URL; ComponentLink3URL: https://lcsc.com/product-detail/Ferrite-Beads_Murata-Electronics-Murata-Electronics-BLM31PG391SH1L_C397308.html
footprint FB-1206 (1206 (3216M) Ferrite)
pins: 1, 2

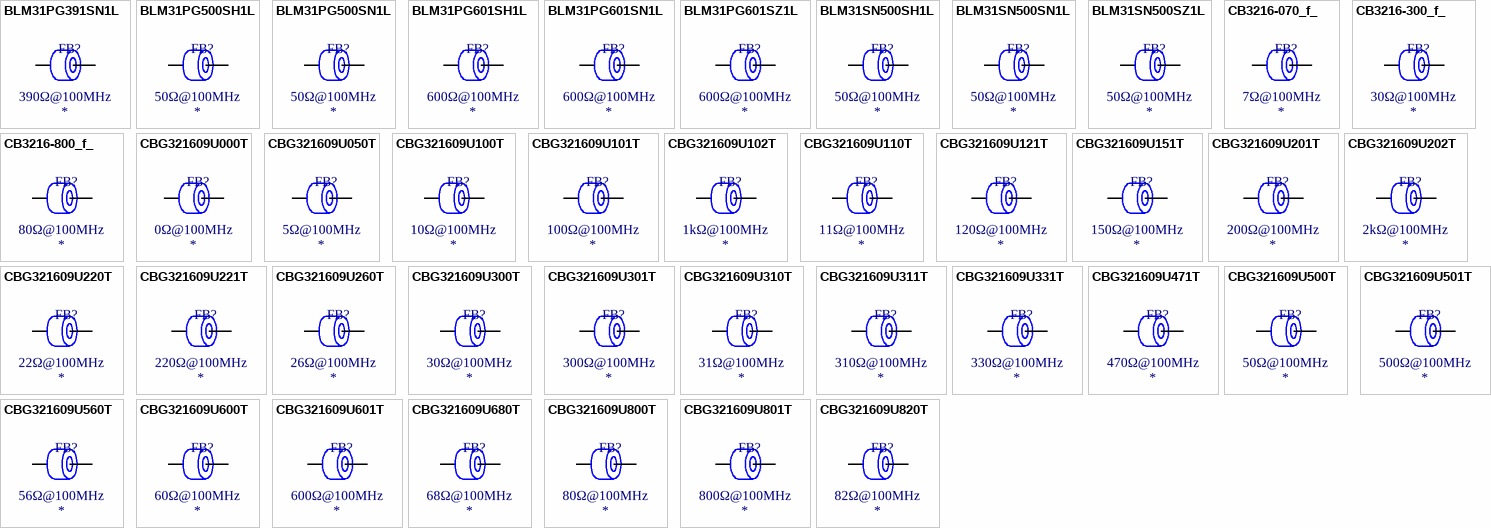
[diagram p1: symbols BLM31PG391SN1L to CBG321609U820T]

## BLM31PG391SN1L
designator FB?  Impedance @ Frequency: 390Ω@100MHz
Ferrite, 390Ω@100MHz, ±25%, 50mΩ, 2A, SMD 1206; Manufacturer: Murata Electronics; Manufacturer Part Number: BLM31PG391SN1L; Package Size: 1206; JLCPCB Basic Part: No; JLCPCB Part Number: C88995; Supplier 1: LCSC; Category: Ferrite Beads; Supplier Part Number 1: C88995; Tolerance: ±25%; Rated Current: 2A; DC Resistance: 50mΩ; RoHS: Yes; ComponentLink1Description: Datasheet; ComponentLink1URL: https://wmsc.lcsc.com/wmsc/upload/file/pdf/v2/lcsc/2304140030_Murata-Electronics-BLM31PG391SN1L_C88995.pdf; ComponentLink2Description: JLCPCB Part URL; ComponentLink2URL: https://jlcpcb.com/partdetail/C88995; ComponentLink3Description: LCSC Part URL; ComponentLink3URL: https://lcsc.com/product-detail/Ferrite-Beads_Murata-Electronics-Murata-Electronics-BLM31PG391SN1L_C88995.html
footprint FB-1206 (1206 (3216M) Ferrite)
pins: 1, 2

## BLM31PG500SH1L
designator FB?  Impedance @ Frequency: 50Ω@100MHz
Ferrite, 50Ω@100MHz, ±25%, 15mΩ, 3.5A, SMD 1206; Manufacturer: Murata Electronics; Manufacturer Part Number: BLM31PG500SH1L; Package Size: 1206; JLCPCB Basic Part: No; JLCPCB Part Number: C88996; Supplier 1: LCSC; Category: Ferrite Beads; Supplier Part Number 1: C88996; Tolerance: ±25%; Rated Current: 3.5A; DC Resistance: 15mΩ; RoHS: Yes; ComponentLink1Description: Datasheet; ComponentLink1URL: https://wmsc.lcsc.com/wmsc/upload/file/pdf/v2/lcsc/2304140030_Murata-Electronics-BLM31PG500SH1L_C88996.pdf; ComponentLink2Description: JLCPCB Part URL; ComponentLink2URL: https://jlcpcb.com/partdetail/C88996; ComponentLink3Description: LCSC Part URL; ComponentLink3URL: https://lcsc.com/product-detail/Ferrite-Beads_Murata-Electronics-Murata-Electronics-BLM31PG500SH1L_C88996.html
footprint FB-1206 (1206 (3216M) Ferrite)
pins: 1, 2

## BLM31PG500SN1L
designator FB?  Impedance @ Frequency: 50Ω@100MHz
Ferrite, 50Ω@100MHz, ±25%, 15mΩ, 3.5A, SMD 1206; Manufacturer: Murata Electronics; Manufacturer Part Number: BLM31PG500SN1L; Package Size: 1206; JLCPCB Basic Part: No; JLCPCB Part Number: C88997; Supplier 1: LCSC; Category: Ferrite Beads; Supplier Part Number 1: C88997; Tolerance: ±25%; Rated Current: 3.5A; DC Resistance: 15mΩ; RoHS: Yes; ComponentLink1Description: Datasheet; ComponentLink1URL: https://wmsc.lcsc.com/wmsc/upload/file/pdf/v2/lcsc/1810201314_Murata-Electronics-BLM31PG500SN1L_C88997.pdf; ComponentLink2Description: JLCPCB Part URL; ComponentLink2URL: https://jlcpcb.com/partdetail/C88997; ComponentLink3Description: LCSC Part URL; ComponentLink3URL: https://lcsc.com/product-detail/Ferrite-Beads_Murata-Electronics-Murata-Electronics-BLM31PG500SN1L_C88997.html
footprint FB-1206 (1206 (3216M) Ferrite)
pins: 1, 2

## BLM31PG601SH1L
designator FB?  Impedance @ Frequency: 600Ω@100MHz
Ferrite, 600Ω@100MHz, ±25%, 80mΩ, 1.5A, SMD 1206; Manufacturer: Murata Electronics; Manufacturer Part Number: BLM31PG601SH1L; Package Size: 1206; JLCPCB Basic Part: No; JLCPCB Part Number: C167450; Supplier 1: LCSC; Category: Ferrite Beads; Supplier Part Number 1: C167450; Tolerance: ±25%; Rated Current: 1.5A; DC Resistance: 80mΩ; RoHS: Yes; ComponentLink1Description: Datasheet; ComponentLink1URL: https://wmsc.lcsc.com/wmsc/upload/file/pdf/v2/lcsc/1810201309_Murata-Electronics-BLM31PG601SH1L_C167450.pdf; ComponentLink2Description: JLCPCB Part URL; ComponentLink2URL: https://jlcpcb.com/partdetail/C167450; ComponentLink3Description: LCSC Part URL; ComponentLink3URL: https://lcsc.com/product-detail/Ferrite-Beads_Murata-Electronics-Murata-Electronics-BLM31PG601SH1L_C167450.html
footprint FB-1206 (1206 (3216M) Ferrite)
pins: 1, 2

## BLM31PG601SN1L
designator FB?  Impedance @ Frequency: 600Ω@100MHz
Ferrite, 600Ω@100MHz, ±25%, 80mΩ, 1.5A, SMD 1206; Manufacturer: Murata Electronics; Manufacturer Part Number: BLM31PG601SN1L; Package Size: 1206; JLCPCB Basic Part: No; JLCPCB Part Number: C16902; Supplier 1: LCSC; Category: Ferrite Beads; Supplier Part Number 1: C16902; Tolerance: ±25%; Rated Current: 1.5A; DC Resistance: 80mΩ; RoHS: Yes; ComponentLink1Description: Datasheet; ComponentLink1URL: https://wmsc.lcsc.com/wmsc/upload/file/pdf/v2/lcsc/2304140030_Murata-Electronics-BLM31PG601SN1L_C16902.pdf; ComponentLink2Description: JLCPCB Part URL; ComponentLink2URL: https://jlcpcb.com/partdetail/C16902; ComponentLink3Description: LCSC Part URL; ComponentLink3URL: https://lcsc.com/product-detail/Ferrite-Beads_Murata-Electronics-Murata-Electronics-BLM31PG601SN1L----_C16902.html
footprint FB-1206 (1206 (3216M) Ferrite)
pins: 1, 2

## BLM31PG601SZ1L
designator FB?  Impedance @ Frequency: 600Ω@100MHz
Ferrite, 600Ω@100MHz, ±25%, 80mΩ, 1.5A, SMD 1206; Manufacturer: Murata Electronics; Manufacturer Part Number: BLM31PG601SZ1L; Package Size: 1206; JLCPCB Basic Part: No; JLCPCB Part Number: C435391; Supplier 1: LCSC; Category: Ferrite Beads; Supplier Part Number 1: C435391; Tolerance: ±25%; Rated Current: 1.5A; DC Resistance: 80mΩ; RoHS: Yes; ComponentLink1Description: Datasheet; ComponentLink1URL: https://wmsc.lcsc.com/wmsc/upload/file/pdf/v2/lcsc/1912111437_Murata-Electronics-BLM31PG601SZ1L_C435391.pdf; ComponentLink2Description: JLCPCB Part URL; ComponentLink2URL: https://jlcpcb.com/partdetail/C435391; ComponentLink3Description: LCSC Part URL; ComponentLink3URL: https://lcsc.com/product-detail/Ferrite-Beads_Murata-Electronics-Murata-Electronics-BLM31PG601SZ1L_C435391.html
footprint FB-1206 (1206 (3216M) Ferrite)
pins: 1, 2

## BLM31SN500SH1L
designator FB?  Impedance @ Frequency: 50Ω@100MHz
Ferrite, 50Ω@100MHz, ±25%, 1.6mΩ, 12A, SMD 1206; Manufacturer: Murata Electronics; Manufacturer Part Number: BLM31SN500SH1L; Package Size: 1206; JLCPCB Basic Part: No; JLCPCB Part Number: C527600; Supplier 1: LCSC; Category: Ferrite Beads; Supplier Part Number 1: C527600; Tolerance: ±25%; Rated Current: 12A; DC Resistance: 1.6mΩ; RoHS: Yes; ComponentLink1Description: Datasheet; ComponentLink1URL: https://wmsc.lcsc.com/wmsc/upload/file/pdf/v2/lcsc/2007031832_Murata-Electronics-BLM31SN500SH1L_C527600.pdf; ComponentLink2Description: JLCPCB Part URL; ComponentLink2URL: https://jlcpcb.com/partdetail/C527600; ComponentLink3Description: LCSC Part URL; ComponentLink3URL: https://lcsc.com/product-detail/Ferrite-Beads_Murata-Electronics-Murata-Electronics-BLM31SN500SH1L_C527600.html
footprint FB-1206 (1206 (3216M) Ferrite)
pins: 1, 2

## BLM31SN500SN1L
designator FB?  Impedance @ Frequency: 50Ω@100MHz
Ferrite, 50Ω@100MHz, ±25%, 1.6mΩ, 12A, SMD 1206; Manufacturer: Murata Electronics; Manufacturer Part Number: BLM31SN500SN1L; Package Size: 1206; JLCPCB Basic Part: No; JLCPCB Part Number: C710524; Supplier 1: LCSC; Category: Ferrite Beads; Supplier Part Number 1: C710524; Tolerance: ±25%; Rated Current: 12A; DC Resistance: 1.6mΩ; RoHS: Yes; ComponentLink1Description: Datasheet; ComponentLink1URL: https://wmsc.lcsc.com/wmsc/upload/file/pdf/v2/lcsc/2201131100_Murata-Electronics-BLM31SN500SN1L_C710524.pdf; ComponentLink2Description: JLCPCB Part URL; ComponentLink2URL: https://jlcpcb.com/partdetail/C710524; ComponentLink3Description: LCSC Part URL; ComponentLink3URL: https://lcsc.com/product-detail/Ferrite-Beads_Murata-Electronics-Murata-Electronics-BLM31SN500SN1L_C710524.html
footprint FB-1206 (1206 (3216M) Ferrite)
pins: 1, 2

## BLM31SN500SZ1L
designator FB?  Impedance @ Frequency: 50Ω@100MHz
Ferrite, 50Ω@100MHz, 1.6mΩ, SMD 1206; Manufacturer: Murata Electronics; Manufacturer Part Number: BLM31SN500SZ1L; Package Size: 1206; JLCPCB Basic Part: No; JLCPCB Part Number: C668307; Supplier 1: LCSC; Category: Ferrite Beads; Supplier Part Number 1: C668307; DC Resistance: 1.6mΩ; RoHS: Yes; ComponentLink1Description: Datasheet; ComponentLink1URL: https://wmsc.lcsc.com/wmsc/upload/file/pdf/v2/lcsc/2308111549_Murata-Electronics-BLM31SN500SZ1L_C668307.pdf; ComponentLink2Description: JLCPCB Part URL; ComponentLink2URL: https://jlcpcb.com/partdetail/C668307; ComponentLink3Description: LCSC Part URL; ComponentLink3URL: https://lcsc.com/product-detail/Ferrite-Beads_Murata-Electronics-Murata-Electronics-BLM31SN500SZ1L_C668307.html
pins: 1, 2

## CB3216-070_f_
designator FB?  Impedance @ Frequency: 7Ω@100MHz
Ferrite, 7Ω@100MHz, ±25%, SMD 1206; Manufacturer: CEC(Shenzhen Zhenhua Fu Elec); Manufacturer Part Number: CB3216-070(f); Package Size: 1206; JLCPCB Basic Part: No; JLCPCB Part Number: C316249; Supplier 1: LCSC; Category: Ferrite Beads; Supplier Part Number 1: C316249; Tolerance: ±25%; RoHS: Yes; ComponentLink1Description: Datasheet; ComponentLink1URL: https://wmsc.lcsc.com/wmsc/upload/file/pdf/v2/lcsc/2304140030_CEC-Shenzhen-Zhenhua-Fu-Elec-CB3216-070-f_C316249.pdf; ComponentLink2Description: JLCPCB Part URL; ComponentLink2URL: https://jlcpcb.com/partdetail/C316249; ComponentLink3Description: LCSC Part URL; ComponentLink3URL: https://lcsc.com/product-detail/Ferrite-Beads_CECShenzhen-Zhenhua-Fu-Elec-CECShenzhen-Zhenhua-Fu-Elec-CB3216-070f_C316249.html
pins: 1, 2

## CB3216-300_f_
designator FB?  Impedance @ Frequency: 30Ω@100MHz
Ferrite, 30Ω@100MHz, ±25%, SMD 1206; Manufacturer: CEC(Shenzhen Zhenhua Fu Elec); Manufacturer Part Number: CB3216-300(f); Package Size: 1206; JLCPCB Basic Part: No; JLCPCB Part Number: C316246; Supplier 1: LCSC; Category: Ferrite Beads; Supplier Part Number 1: C316246; Tolerance: ±25%; RoHS: Yes; ComponentLink1Description: Datasheet; ComponentLink1URL: https://wmsc.lcsc.com/wmsc/upload/file/pdf/v2/lcsc/2304140030_CEC-Shenzhen-Zhenhua-Fu-Elec-CB3216-300-f_C316246.pdf; ComponentLink2Description: JLCPCB Part URL; ComponentLink2URL: https://jlcpcb.com/partdetail/C316246; ComponentLink3Description: LCSC Part URL; ComponentLink3URL: https://lcsc.com/product-detail/Ferrite-Beads_CECShenzhen-Zhenhua-Fu-Elec-CECShenzhen-Zhenhua-Fu-Elec-CB3216-300f_C316246.html
pins: 1, 2

## CB3216-800_f_
designator FB?  Impedance @ Frequency: 80Ω@100MHz
Ferrite, 80Ω@100MHz, ±25%, 100mΩ, 1A, SMD 1206; Manufacturer: CEC(Shenzhen Zhenhua Fu Elec); Manufacturer Part Number: CB3216-800(f); Package Size: 1206; JLCPCB Basic Part: No; JLCPCB Part Number: C316245; Supplier 1: LCSC; Category: Ferrite Beads; Supplier Part Number 1: C316245; Tolerance: ±25%; Rated Current: 1A; DC Resistance: 100mΩ; RoHS: Yes; ComponentLink1Description: Datasheet; ComponentLink1URL: https://wmsc.lcsc.com/wmsc/upload/file/pdf/v2/lcsc/2304140030_CEC-Shenzhen-Zhenhua-Fu-Elec-CB3216-800-f_C316245.pdf; ComponentLink2Description: JLCPCB Part URL; ComponentLink2URL: https://jlcpcb.com/partdetail/C316245; ComponentLink3Description: LCSC Part URL; ComponentLink3URL: https://lcsc.com/product-detail/Ferrite-Beads_CECShenzhen-Zhenhua-Fu-Elec-CECShenzhen-Zhenhua-Fu-Elec-CB3216-800f_C316245.html
footprint FB-1206 (1206 (3216M) Ferrite)
pins: 1, 2

## CBG321609U000T
designator FB?  Impedance @ Frequency: 0Ω@100MHz
Ferrite, 0Ω@100MHz, 100mΩ, 1A, SMD 1206; Manufacturer: FH(Guangdong Fenghua Advanced Tech); Manufacturer Part Number: CBG321609U000T; Package Size: 1206; JLCPCB Basic Part: No; JLCPCB Part Number: C94305; Supplier 1: LCSC; Category: Ferrite Beads; Supplier Part Number 1: C94305; Rated Current: 1A; DC Resistance: 100mΩ; RoHS: Yes; ComponentLink1Description: Datasheet; ComponentLink1URL: https://wmsc.lcsc.com/wmsc/upload/file/pdf/v2/lcsc/1810271623_FH--Guangdong-Fenghua-Advanced-Tech-CBG321609U000T_C94305.pdf; ComponentLink2Description: JLCPCB Part URL; ComponentLink2URL: https://jlcpcb.com/partdetail/C94305; ComponentLink3Description: LCSC Part URL; ComponentLink3URL: https://lcsc.com/product-detail/Ferrite-Beads_FH-Guangdong-Fenghua-Advanced-Tech-FH-Guangdong-Fenghua-Advanced-Tech-CBG321609U000T_C94305.html
pins: 1, 2

## CBG321609U050T
designator FB?  Impedance @ Frequency: 5Ω@100MHz
Ferrite, 5Ω@100MHz, 100mΩ, 1A, SMD 1206; Manufacturer: FH(Guangdong Fenghua Advanced Tech); Manufacturer Part Number: CBG321609U050T; Package Size: 1206; JLCPCB Basic Part: No; JLCPCB Part Number: C139150; Supplier 1: LCSC; Category: Ferrite Beads; Supplier Part Number 1: C139150; Rated Current: 1A; DC Resistance: 100mΩ; RoHS: Yes; ComponentLink1Description: Datasheet; ComponentLink1URL: https://wmsc.lcsc.com/wmsc/upload/file/pdf/v2/lcsc/2304140030_FH--Guangdong-Fenghua-Advanced-Tech-CBG321609U050T_C139150.pdf; ComponentLink2Description: JLCPCB Part URL; ComponentLink2URL: https://jlcpcb.com/partdetail/C139150; ComponentLink3Description: LCSC Part URL; ComponentLink3URL: https://lcsc.com/product-detail/Ferrite-Beads_FH-Guangdong-Fenghua-Advanced-Tech-FH-Guangdong-Fenghua-Advanced-Tech-CBG321609U050T_C139150.html
pins: 1, 2

## CBG321609U100T
designator FB?  Impedance @ Frequency: 10Ω@100MHz
Ferrite, 10Ω@100MHz, ±25%, SMD 1206; Manufacturer: FH(Guangdong Fenghua Advanced Tech); Manufacturer Part Number: CBG321609U100T; Package Size: 1206; JLCPCB Basic Part: No; JLCPCB Part Number: C139151; Supplier 1: LCSC; Category: Ferrite Beads; Supplier Part Number 1: C139151; Tolerance: ±25%; RoHS: Yes; ComponentLink1Description: Datasheet; ComponentLink1URL: https://wmsc.lcsc.com/wmsc/upload/file/pdf/v2/lcsc/2304140030_FH--Guangdong-Fenghua-Advanced-Tech-CBG321609U100T_C139151.pdf; ComponentLink2Description: JLCPCB Part URL; ComponentLink2URL: https://jlcpcb.com/partdetail/C139151; ComponentLink3Description: LCSC Part URL; ComponentLink3URL: https://lcsc.com/product-detail/Ferrite-Beads_FH-Guangdong-Fenghua-Advanced-Tech-FH-Guangdong-Fenghua-Advanced-Tech-CBG321609U100T_C139151.html
pins: 1, 2

## CBG321609U101T
designator FB?  Impedance @ Frequency: 100Ω@100MHz
Ferrite, 100Ω@100MHz, ±25%, 150mΩ, 1A, SMD 1206; Manufacturer: FH(Guangdong Fenghua Advanced Tech); Manufacturer Part Number: CBG321609U101T; Package Size: 1206; JLCPCB Basic Part: No; JLCPCB Part Number: C74485; Supplier 1: LCSC; Category: Ferrite Beads; Supplier Part Number 1: C74485; Tolerance: ±25%; Rated Current: 1A; DC Resistance: 150mΩ; RoHS: Yes; ComponentLink1Description: Datasheet; ComponentLink1URL: https://wmsc.lcsc.com/wmsc/upload/file/pdf/v2/lcsc/2304140030_FH--Guangdong-Fenghua-Advanced-Tech-CBG321609U101T_C74485.pdf; ComponentLink2Description: JLCPCB Part URL; ComponentLink2URL: https://jlcpcb.com/partdetail/C74485; ComponentLink3Description: LCSC Part URL; ComponentLink3URL: https://lcsc.com/product-detail/Ferrite-Beads_FH-Guangdong-Fenghua-Advanced-Tech-FH-Guangdong-Fenghua-Advanced-Tech-CBG321609U101T_C74485.html
footprint FB-1206 (1206 (3216M) Ferrite)
pins: 1, 2